# Altium footprint library 0ZCJ0050FF2G.PcbLib: 1 footprints
Each footprint in its own frame and in the unit in brackets; x right, y up, seen from the top. Pads: shape width x height; smd on the part's side, far side on the other; paste and mask are expansions set on the pad; w line width, h text height; cw(c..) or ccw(c..) is an arc to the next point about the centre after c.
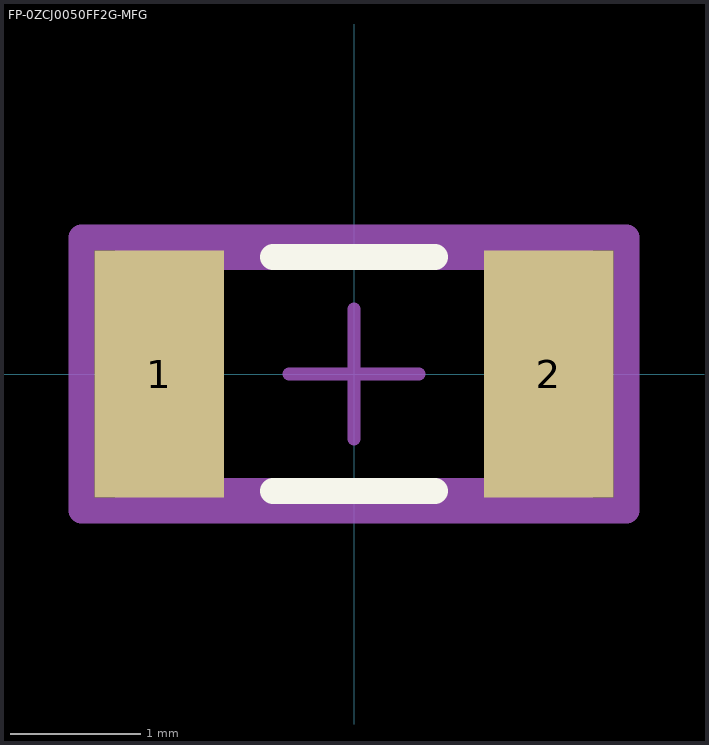
[diagram p0: the footprint, top view; thin cyan lines are the x and y axes]

## FP-0ZCJ0050FF2G-MFG [mm]
pads (2):
  rect 1x1.9 smd paste+0 mask+0: 1(-1.5,0) 2(1.5,0)
Top Overlay:
  lines w0.2: -0.625,-0.9 0.625,-0.9 ; -0.625,0.9 0.625,0.9
Top Assembly:
  lines w0.2: -2.1,-1.05 2.1,-1.05 2.1,1.05 -2.1,1.05 -2.1,-1.05
  text ".Designator" at 0,0.188 h1
Top 3D Body:
  lines w0.2: -1.75,-0.9 1.75,-0.9 1.75,0.9 -1.75,0.9 -1.75,-0.9
Top Courtyard:
  lines w0.2: -2.1,-1.05 2.1,-1.05 2.1,1.05 -2.1,1.05 -2.1,-1.05
Top Component Center:
  lines w0.1: -0.5,0 0.5,0 ; 0,-0.5 0,0.5
3D body "Fuse_Bel_Fuse_0ZCJ0050FF2G_eec.STEP": height 0.25, standoff 0, extent -2.1,-1.05 2.1,1.05